# EAGLE library part MC-254-08-00-ST-DIP (library SamacSys_Parts)
CONNECTOR, HEADER, 8POS, 2ROW, 2.54MM; Pitch Spacing:2.54mm; No. of Contacts:8Contacts; Gender:Header; Product Range:-; Contact Termination Type:Through Hole; No. of Rows:2Rows; Contact Plating:Gold Plated Contacts RoHS Compliant: Yes Source: Datasheet <https://componentsearchengine.com/Datasheets/2/MC-254-08-00-ST-DIP.pdf>
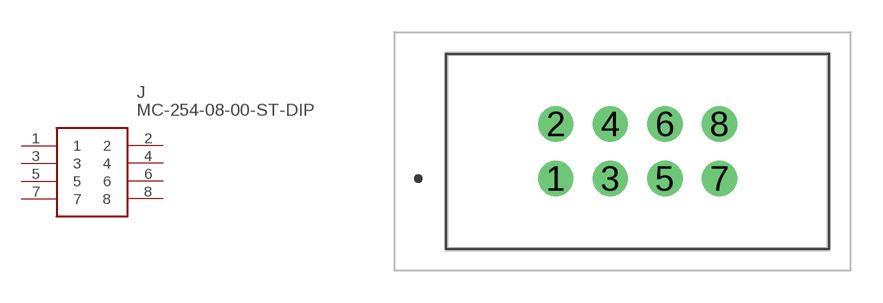
[diagram p4: symbol with the pads of MC2540800STDIP; footprint MC2540800STDIP]

Designator prefix J

## MC-254-08-00-ST-DIP (ARROW_PART_NUMBER: MC-254-08-00-ST-DIP; DESCRIPTION: CONNECTOR, HEADER, 8POS, 2ROW, 2.54MM; Pitch Spacing:2.54mm; No. of Contacts:8Contacts; Gender:Header; Product Range:-; Contact Termination Type:Through Hole; No. of Rows:2Rows; Contact Plating:Gold Plated Contacts RoHS Compliant: Yes; HEIGHT: 9.1mm; MANUFACTURER_NAME: MULTICOMP; MANUFACTURER_PART_NUMBER: MC-254-08-00-ST-DIP)  [MC2540800STDIP]
1  1
2  2
3  3
4  4
5  5
6  6
7  7
8  8

## Footprint MC2540800STDIP (pad centres in mm)
MC-254-08-00-ST-DIP-2
drill 1.1 pad 1.65: 1 0,0; 2 0,2.54; 3 2.54,0; 4 2.54,2.54; 5 5.08,0; 6 5.08,2.54; 7 7.62,0; 8 7.62,2.54